# Altium footprint library Capacitor Non-Polar Disc.PcbLib: 220 footprints (part 5 of 14)
Each footprint in its own frame and in the unit in brackets; x right, y up, seen from the top. Pads: shape width x height; smd on the part's side, far side on the other; paste and mask are expansions set on the pad; w line width, h text height; cw(c..) or ccw(c..) is an arc to the next point about the centre after c.
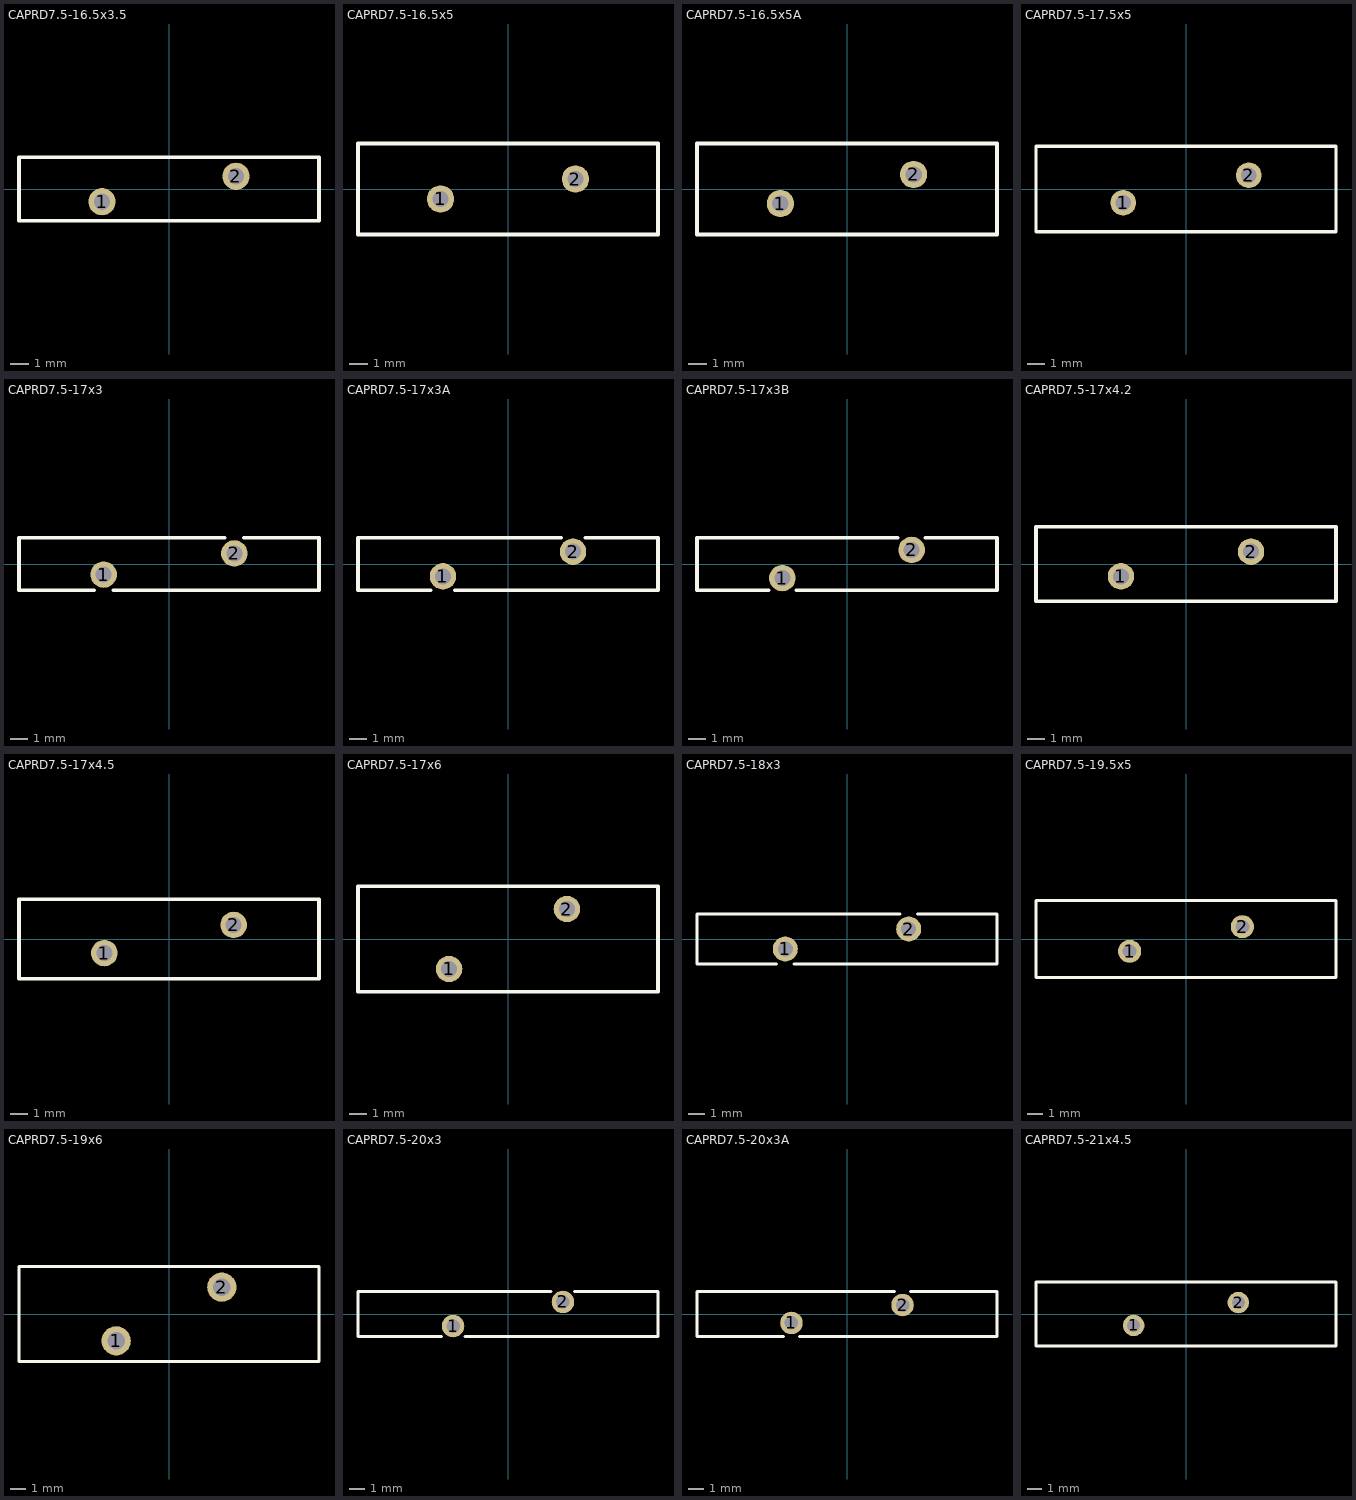
[diagram p4: the footprints below, top view; thin cyan lines are the x and y axes]

## CAPRD7.5-16.5x3.5 [mm] "Capacitor, Ceramic, Thru-Hole, Disc; Body 16.5 x 3.5 mm (LxW max) Pin Spacing 7.5 mm (typ)"
height 19.5
pads (2):
  round 1.5 hole 0.9: 1(-3.684,-0.7) 2(3.684,0.7)
Top Overlay:
  lines w0.2: -8.25,-1.75 8.25,-1.75 8.25,1.75 -8.25,1.75 -8.25,-1.75

## CAPRD7.5-16.5x5 [mm] "Capacitor, Ceramic, Thru-Hole, Disc; Body 16.5 x 5 mm (LxW max) Pin Spacing 7.5 mm (typ)"
height 19.5
pads (2):
  round 1.5 hole 0.9: 1(-3.709,-0.55) 2(3.709,0.55)
Top Overlay:
  lines w0.2: -8.25,-2.5 8.25,-2.5 8.25,2.5 -8.25,2.5 -8.25,-2.5

## CAPRD7.5-16.5x5A [mm] "Capacitor, Ceramic, Thru-Hole, Disc; Body 16.5 x 5 mm (LxW max) Pin Spacing 7.5 mm (typ)"
height 19.5
pads (2):
  round 1.5 hole 0.9: 1(-3.664,-0.8) 2(3.664,0.8)
Top Overlay:
  lines w0.2: -8.25,-2.5 8.25,-2.5 8.25,2.5 -8.25,2.5 -8.25,-2.5

## CAPRD7.5-17.5x5 [mm] "Capacitor, Ceramic, Thru-Hole, Disc; Body 17.5 x 5 mm (LxW max) Pin Spacing 7.5 mm (typ)"
height 20.5
pads (2):
  round 1.5 hole 0.9: 1(-3.664,-0.8) 2(3.664,0.8)
Top Overlay:
  lines w0.2: -8.75,-2.5 8.75,-2.5 8.75,2.5 -8.75,2.5 -8.75,-2.5

## CAPRD7.5-17x3 [mm] "Capacitor, Ceramic, Thru-Hole, Disc; Body 17 x 3 mm (LxW max) Pin Spacing 7.5 mm (typ)"
height 20
pads (2):
  round 1.5 hole 0.9: 1(-3.702,-0.6) 2(3.702,0.6)
Top Overlay:
  lines w0.2: -4.243,-1.5 -8.5,-1.5 -8.5,1.5 3.16,1.5 ; -3.16,-1.5 8.5,-1.5 8.5,1.5 4.243,1.5

## CAPRD7.5-17x3A [mm] "Capacitor, Ceramic, Thru-Hole, Disc; Body 17 x 3 mm (LxW max) Pin Spacing 7.5 mm (typ)"
height 20
pads (2):
  round 1.5 hole 0.9: 1(-3.684,-0.7) 2(3.684,0.7)
Top Overlay:
  lines w0.2: -4.364,-1.5 -8.5,-1.5 -8.5,1.5 3.004,1.5 ; -3.004,-1.5 8.5,-1.5 8.5,1.5 4.364,1.5

## CAPRD7.5-17x3B [mm] "Capacitor, Ceramic, Thru-Hole, Disc; Body 17 x 3 mm (LxW max) Pin Spacing 7.5 mm (typ)"
height 20
pads (2):
  round 1.5 hole 0.9: 1(-3.664,-0.8) 2(3.664,0.8)
Top Overlay:
  lines w0.2: -4.446,-1.5 -8.5,-1.5 -8.5,1.5 2.881,1.5 ; -2.881,-1.5 8.5,-1.5 8.5,1.5 4.446,1.5

## CAPRD7.5-17x4.2 [mm] "Capacitor, Ceramic, Thru-Hole, Disc; Body 17 x 4.2 mm (LxW max) Pin Spacing 7.5 mm (typ)"
height 20
pads (2):
  round 1.5 hole 0.9: 1(-3.684,-0.7) 2(3.684,0.7)
Top Overlay:
  lines w0.2: -8.5,-2.1 -8.5,2.1 8.5,2.1 8.5,-2.1 -8.5,-2.1

## CAPRD7.5-17x4.5 [mm] "Capacitor, Ceramic, Thru-Hole, Disc; Body 17 x 4.5 mm (LxW max) Pin Spacing 7.5 mm (typ)"
height 20
pads (2):
  round 1.5 hole 0.9: 1(-3.664,-0.8) 2(3.664,0.8)
Top Overlay:
  lines w0.2: -8.5,-2.25 8.5,-2.25 8.5,2.25 -8.5,2.25 -8.5,-2.25

## CAPRD7.5-17x6 [mm] "Capacitor, Ceramic, Thru-Hole, Disc; Body 17 x 6 mm (LxW max) Pin Spacing 7.5 mm (typ)"
height 22
pads (2):
  round 1.5 hole 0.9: 1(-3.342,-1.7) 2(3.342,1.7)
Top Overlay:
  lines w0.2: -8.5,-3 -8.5,3 8.5,3 8.5,-3 -8.5,-3

## CAPRD7.5-18x3 [mm] "Capacitor, Ceramic, Thru-Hole, Disc; Body 18 x 3 mm (LxW max) Pin Spacing 7.5 mm (typ)"
height 21
pads (2):
  round 1.5 hole 0.9: 1(-3.702,-0.6) 2(3.702,0.6)
Top Overlay:
  lines w0.2: -4.243,-1.5 -9,-1.5 -9,1.5 3.16,1.5 ; -3.16,-1.5 9,-1.5 9,1.5 4.243,1.5

## CAPRD7.5-19.5x5 [mm] "Capacitor, Ceramic, Thru-Hole, Disc; Body 19.5 x 5 mm (LxW max) Pin Spacing 7.5 mm (typ)"
height 22.5
pads (2):
  round 1.5 hole 0.9: 1(-3.664,-0.8) 2(3.664,0.8)
Top Overlay:
  lines w0.2: -9.75,-2.5 -9.75,2.5 9.75,2.5 9.75,-2.5 -9.75,-2.5

## CAPRD7.5-19x6 [mm] "Capacitor, Ceramic, Thru-Hole, Disc; Body 19 x 6 mm (LxW max) Pin Spacing 7.5 mm (typ)"
height 24
pads (2):
  round 1.85 hole 1.1: 1(-3.342,-1.7) 2(3.342,1.7)
Top Overlay:
  lines w0.2: -9.5,-3 9.5,-3 9.5,3 -9.5,3 -9.5,-3

## CAPRD7.5-20x3 [mm] "Capacitor, Ceramic, Thru-Hole, Disc; Body 20 x 3 mm (LxW max) Pin Spacing 7.5 mm (typ)"
height 23
pads (2):
  round 1.5 hole 0.9: 1(-3.664,-0.8) 2(3.664,0.8)
Top Overlay:
  lines w0.2: -4.446,-1.5 -10,-1.5 -10,1.5 2.881,1.5 ; -2.881,-1.5 10,-1.5 10,1.5 4.446,1.5

## CAPRD7.5-20x3A [mm] "Capacitor, Ceramic, Thru-Hole, Disc; Body 20 x 3 mm (LxW max) Pin Spacing 7.5 mm (typ)"
height 23
pads (2):
  round 1.5 hole 0.9: 1(-3.702,-0.6) 2(3.702,0.6)
Top Overlay:
  lines w0.2: -4.243,-1.5 -10,-1.5 -10,1.5 3.16,1.5 ; -3.16,-1.5 10,-1.5 10,1.5 4.243,1.5

## CAPRD7.5-21x4.5 [mm] "Capacitor, Ceramic, Thru-Hole, Disc; Body 21 x 4.5 mm (LxW max) Pin Spacing 7.5 mm (typ)"
height 24
pads (2):
  round 1.5 hole 0.9: 1(-3.664,-0.8) 2(3.664,0.8)
Top Overlay:
  lines w0.2: -10.5,-2.25 10.5,-2.25 10.5,2.25 -10.5,2.25 -10.5,-2.25